# EAGLE library part CAN-INTERFACE (library can-interface)
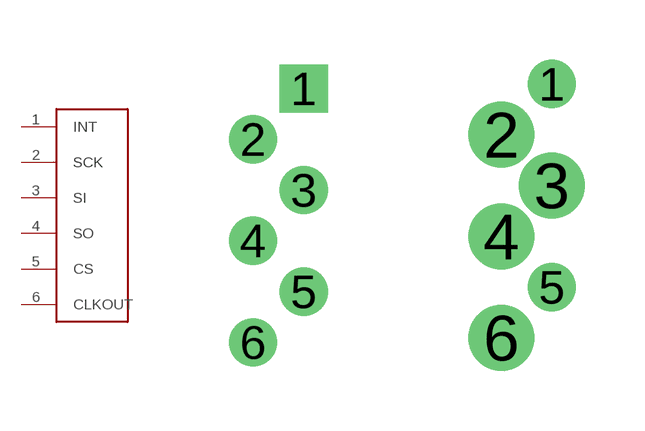
[diagram p0: symbol with the pads of VIA-LIST; footprints VIA-LIST, VIA-LIST-BIGHOLES]

Designator prefix -

## CAN-INTERFACE"  [VIA-LIST]
1  INT
2  SCK
3  SI
4  SO
5  CS
6  CLKOUT

## CAN-INTERFACEBH  [VIA-LIST-BIGHOLES]
Pads as for VIA-LIST

## Footprint VIA-LIST (pad centres in mm)
drill 0.7 square: 1 0,2.54
drill 0.7 round: 2 -1.27,1.27; 3 0,0; 4 -1.27,-1.27; 5 0,-2.54; 6 -1.27,-3.81

## Footprint VIA-LIST-BIGHOLES (pad centres in mm)
drill 0.7 round: 1 1.27,3.81; 5 1.27,-1.27
drill 1.1 pad 1.524 round: 2 0,2.54; 3 1.27,1.27; 4 0,0
drill 1.1 round: 6 0,-2.54